# EAGLE library part PIN_3X4 (library pinhead_3row)
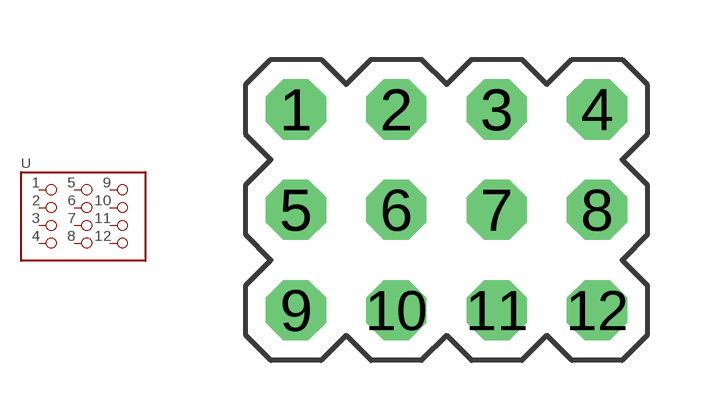
[diagram p6: symbol with the pads of PIN_3X4; footprint PIN_3X4]

Designator prefix -

## PIN_3X4  [PIN_3X4]
1  1
2  2
3  3
4  4
5  5
6  6
7  7
8  8
9  9
10  10
11  11
12  12

## Footprint PIN_3X4 (pad centres in mm)
drill 1.016 octagon: 1 1.27,-1.27; 2 3.81,-1.27; 3 6.35,-1.27; 4 8.89,-1.27; 5 1.27,-3.81; 6 3.81,-3.81; 7 6.35,-3.81; 8 8.89,-3.81; 9 1.27,-6.35; 10 3.81,-6.35; 11 6.35,-6.35; 12 8.89,-6.35